# Altium footprint library Passives.PcbLib: 58 footprints (part 4 of 4)
Each footprint in its own frame and in the unit in brackets; x right, y up, seen from the top. Pads: shape width x height; smd on the part's side, far side on the other; paste and mask are expansions set on the pad; w line width, h text height; cw(c..) or ccw(c..) is an arc to the next point about the centre after c.
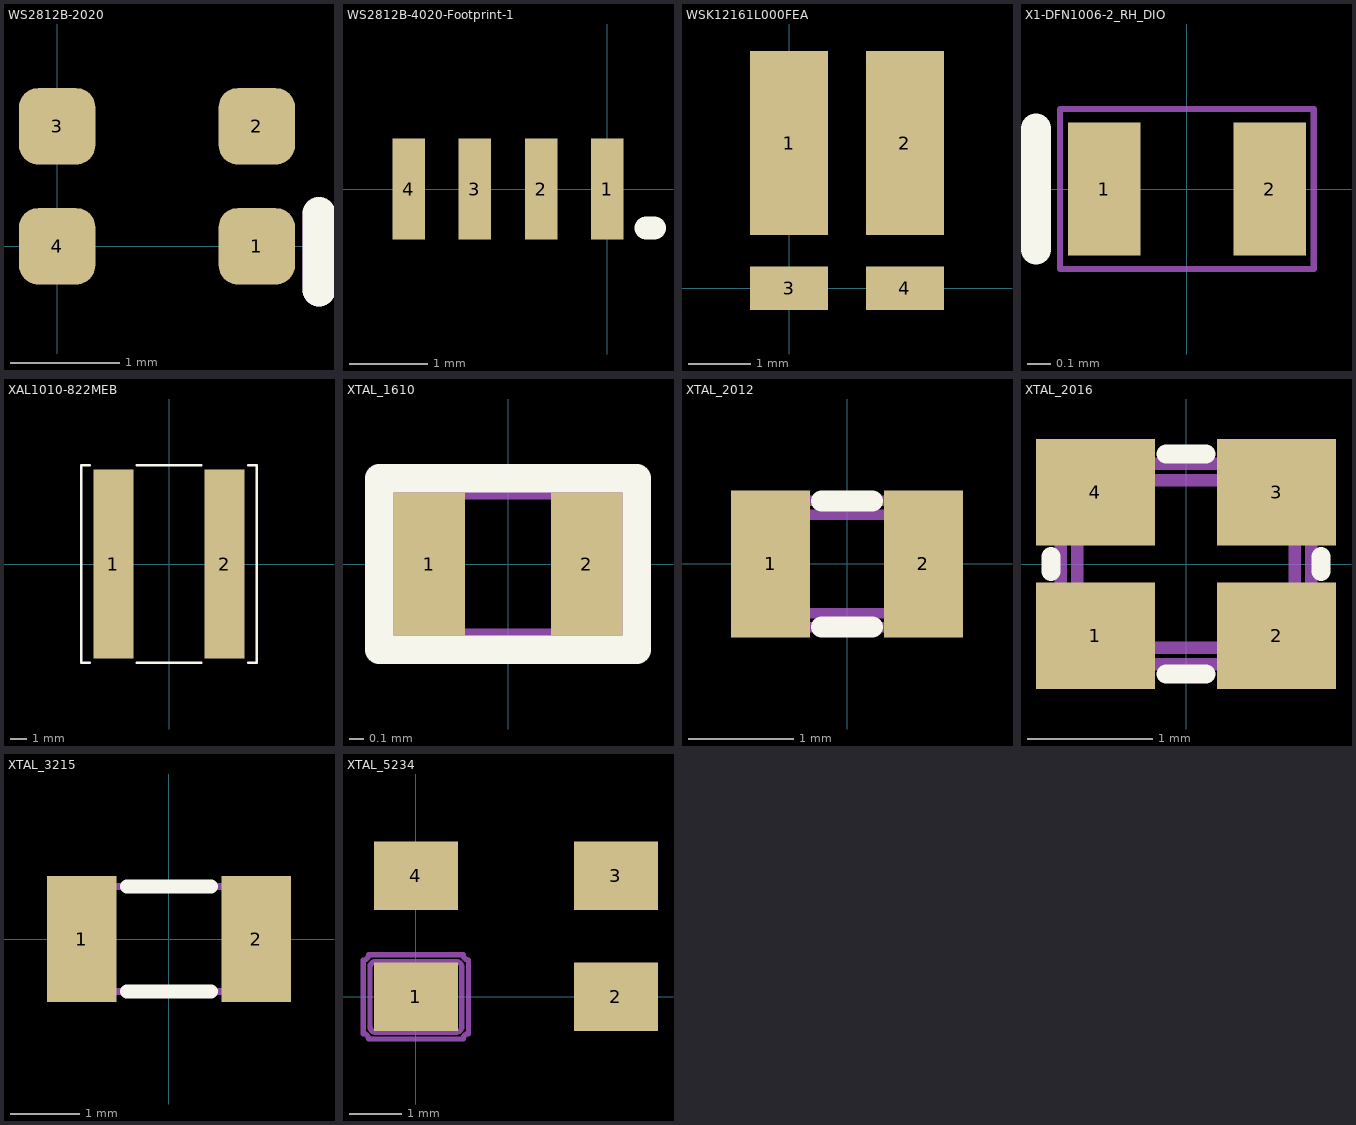
[diagram p3: the footprints below, top view; thin cyan lines are the x and y axes]

## WS2812B-2020 [mm] "MINI led rgb digital"
pads (4):
  rrect50% 0.7x0.7 smd: 1(1.83,0) 2(1.83,1.1) 3(0,1.1) 4(0,0)
Top Overlay:
  lines w0.3: 2.4,-0.4 2.4,0.3
Mechanical 1:
  lines w0.3: 2.4,-0.4 2.4,0.3
3D body "WS2812-2020.STEP": height 0.56, standoff -0.3, extent -0.2,-0.4 2,1.6

## WS2812B-4020-Footprint-1 [mm]
pads (4):
  rect 0.42x1.3 smd: 1(0,0) 2(-0.85,0) 3(-1.7,0) 4(-2.55,0)
Top Overlay:
  lines w0.3: 0.5,-0.5 0.6,-0.5
3D body "User Library-WS2812-4020.step": height 2, standoff 0, extent -3.25,-0.25 0.75,1.5

## WSK12161L000FEA [mm] "Current shunt resistor"
pads (4):
  rect 1.245x2.95 smd: 1(0,2.325) 2(1.855,2.325)
  rect 1.245x0.7 smd: 3(0,0) 4(1.855,0)
3D body "WSK1216.STEP": height 1.72, standoff -0.01, extent -0.561,-0.2 2.361,3.61

## X1-DFN1006-2_RH_DIO [mil]
pads (2):
  rect 12x22 smd paste+0 mask-1: 1(-13.69,0) 2(13.69,0)
Top Overlay:
  lines w5: -25,-10 -25,10
Mechanical 13:
  lines w1: -21,-13.29 21,-13.29 21,13.29 -21,13.29 -21,-13.29
3D body "X1-DFN1006-2_RH_DIO.step": height 21.1, standoff 0, extent -20.98,-13.27 20.98,13.27

## XAL1010-822MEB [mil] "Inductor"
pads (2):
  rect 94x445 smd: 1(-131,0) 2(131,0)
Top Overlay:
  lines w6: -186.46,-232.5 -207,-232.5 -207,232.5 -186.46,232.5 ; -75.54,-232.5 75.54,-232.5 ; -75.54,232.5 75.54,232.5 ; 186.46,-232.5 207,-232.5 207,232.5 186.46,232.5
3D body "XAL1010.stp": height 406, standoff 0, extent -223.99,-232.49 214,232.51

## XTAL_1610 [mm]
pads (2):
  rect 0.5x1 smd: 1(-0.55,0) 2(0.55,0)
Top Overlay:
  lines w0.2: -0.9,-0.6 0.9,-0.6 0.9,0.6 -0.9,0.6 -0.9,-0.5 -0.9,-0.6
Mechanical 7:
  lines w0.1: -0.8,-0.5 -0.8,0.5 0.8,0.5 0.8,-0.5 -0.8,-0.5
  text ".Designator" at -0.7,-0.2 h0.38
3D body: height 0.5, standoff 0.45, extent -0.75,-0.45 0.75,0.45
3D body: height 0.45, standoff 0, extent -0.8,-0.5 0.8,0.5

## XTAL_2012 [mm]
pads (2):
  rect 0.75x1.4 smd: 1(-0.725,0) 2(0.725,0)
Top Overlay:
  lines w0.2: -0.24,-0.6 0.24,-0.6 ; -0.24,0.6 0.24,0.6
Mechanical 7:
  lines w0.1: -1,-0.5 cw(c-1,-0.6) -0.9,-0.6 0.9,-0.6 cw(c1,-0.6) 1,-0.5 1,0.5 cw(c1,0.6) 0.9,0.6 -0.9,0.6 cw(c-1,0.6) -1,0.5 -1,-0.5 ; -0.87,-0.37 ccw(c-0.77,-0.37) -0.77,-0.47 0.77,-0.47 ccw(c0.77,-0.37) 0.87,-0.37 0.87,0.37 ccw(c0.77,0.37) 0.77,0.47 -0.77,0.47 ccw(c-0.77,0.37) -0.87,0.37 -0.87,-0.37
  text ".Designator" at -0.7,-0.2 h0.38
3D body "User Library-ABS06.STEP": height 0.6, standoff 0, extent -1,-0.61 1,0.61
3D body: height 0.6, standoff 0.15, extent -0.825,-0.4 0.825,0.4

## XTAL_2016 [mm]
pads (4):
  rect 0.95x0.85 smd: 1(-0.725,-0.575) 2(0.725,-0.575) 3(0.725,0.575) 4(-0.725,0.575)
Top Overlay:
  lines w0.152: -1.08,-0.06 -1.08,0.06 ; -0.16,-0.88 0.16,-0.88 ; -0.16,0.88 0.16,0.88 ; 1.08,-0.06 1.08,0.06
Mechanical 7:
  lines w0.1: -1,-0.7 cw(c-1,-0.8) -0.9,-0.8 0.9,-0.8 cw(c1,-0.8) 1,-0.7 1,0.7 cw(c1,0.8) 0.9,0.8 -0.9,0.8 cw(c-1,0.8) -1,0.7 -1,-0.7 ; -0.87,-0.57 ccw(c-0.77,-0.57) -0.77,-0.67 0.77,-0.67 ccw(c0.77,-0.57) 0.87,-0.57 0.87,0.57 ccw(c0.77,0.57) 0.77,0.67 -0.77,0.67 ccw(c-0.77,0.57) -0.87,0.57 -0.87,-0.57
3D body "User Library-GeyerElectronics_KX5.step": height 0.56, standoff 0, extent -1.05,-0.85 1.05,0.85
3D body: height 0.56, standoff 0.15, extent -0.7,-0.65 0.7,0.65

## XTAL_3215 [mm]
pads (2):
  rect 1x1.8 smd: 1(-1.25,0) 2(1.25,0)
Top Overlay:
  lines w0.2: -0.6,-0.75 0.6,-0.75 ; -0.6,0.75 0.6,0.75
Mechanical 7:
  lines w0.1: -1.6,-0.75 1.6,-0.75 1.6,0.75 -1.6,0.75 -1.6,-0.75
Mechanical 15:
  lines w0.1: -1.6,-0.55 cw(c-1.6,-0.75) -1.4,-0.75 1.4,-0.75 cw(c1.6,-0.75) 1.6,-0.55 1.6,0.55 cw(c1.6,0.75) 1.4,0.75 -1.4,0.75 cw(c-1.6,0.75) -1.6,0.55 -1.6,-0.55
3D body "User Library-Siward_SX3215.step": height 0.81, standoff 0, extent -1.6,-0.75 1.6,0.75
3D body: height 0.81, standoff 0.15, extent -1.2,-0.6 1.2,0.6

## XTAL_5234 [mm]
pads (4):
  rect 1.6x1.3 smd: 1(0,0) 2(3.8,0) 3(3.8,2.3) 4(0,2.3)
Mechanical 7:
  lines w0.1: -1,-0.7 cw(c-1,-0.8) -0.9,-0.8 0.9,-0.8 cw(c1,-0.8) 1,-0.7 1,0.7 cw(c1,0.8) 0.9,0.8 -0.9,0.8 cw(c-1,0.8) -1,0.7 -1,-0.7 ; -0.87,-0.57 ccw(c-0.77,-0.57) -0.77,-0.67 0.77,-0.67 ccw(c0.77,-0.57) 0.87,-0.57 0.87,0.57 ccw(c0.77,0.57) 0.77,0.67 -0.77,0.67 ccw(c-0.77,0.57) -0.87,0.57 -0.87,-0.57
3D body: height 0.56, standoff 0.15, extent 1.2,0.55 2.6,1.85
3D body "User Library-GeyerElectronics_KX5.step": height 0.56, standoff 0, extent 0.85,0.35 2.95,2.05